# EAGLE library part C9 (library con-ninigi-3.96)
NINIGI
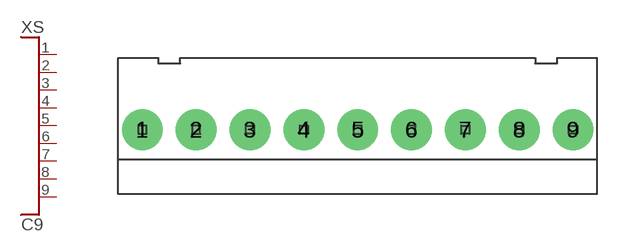
[diagram p3: symbol with the pads of NINIGI9C; footprint NINIGI9C]

Designator prefix XS

## C9  [NINIGI9C]
1  P$1
2  P$2
3  P$3
4  P$4
5  P$5
6  P$6
7  P$7
8  P$8
9  P$9

## Footprint NINIGI9C (pad centres in mm)
drill 1.6 pad 3: 1 -15.84,0; 2 -11.88,0; 3 -7.92,0; 4 -3.96,0; 5 0,0; 6 3.96,0; 7 7.92,0; 8 11.88,0; 9 15.84,0